# EAGLE library part MC100EPT21 (library QuantumOptics)
MC100EPT21, On Semi, PECL to TTL translator, +3.3V, 1.4nS. http://www.onsemi.com/pub/Collateral/MC100EPT21-D.PDF
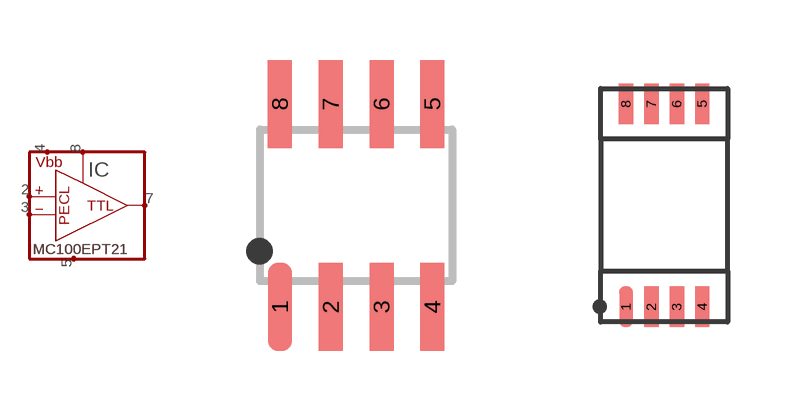
[diagram p43: symbol with the pads of SOIC-8; footprints SOIC-8, TSSOP-8]

Designator prefix IC

## MC100EPT21D  [SOIC-8]
2  +IN  in
3  -IN  in
4  VBB  nc
5  COM  in
7  Q  out
8  VCC  in

## MC100EPT21DT  [TSSOP-8]
Pads as for SOIC-8

## Footprint SOIC-8 (pad centres in mm)
SOIC-8 (a.k.a. SO-8), pads on 0.050" x 0.200" c-c spacing.
smd 0.6 x 2.2: 1 -1.27,-2.54; 2 0,-2.54; 3 1.27,-2.54; 4 2.54,-2.54; 5 2.54,2.54; 6 1.27,2.54; 7 0,2.54; 8 -1.27,2.54

## Footprint TSSOP-8 (pad centres in mm)
TSSOP-8, use 0.025" grid. Metric device but fits well on imperial.
smd 0.356 x 1.016: 1 -1.27,-3.175; 2 -0.635,-3.175; 3 0,-3.175; 4 0.635,-3.175; 5 0.635,1.905; 6 0,1.905; 7 -0.635,1.905; 8 -1.27,1.905